# Altium footprint library Memory.PcbLib: 3 footprints
Each footprint in its own frame and in the unit in brackets; x right, y up, seen from the top. Pads: shape width x height; smd on the part's side, far side on the other; paste and mask are expansions set on the pad; w line width, h text height; cw(c..) or ccw(c..) is an arc to the next point about the centre after c.
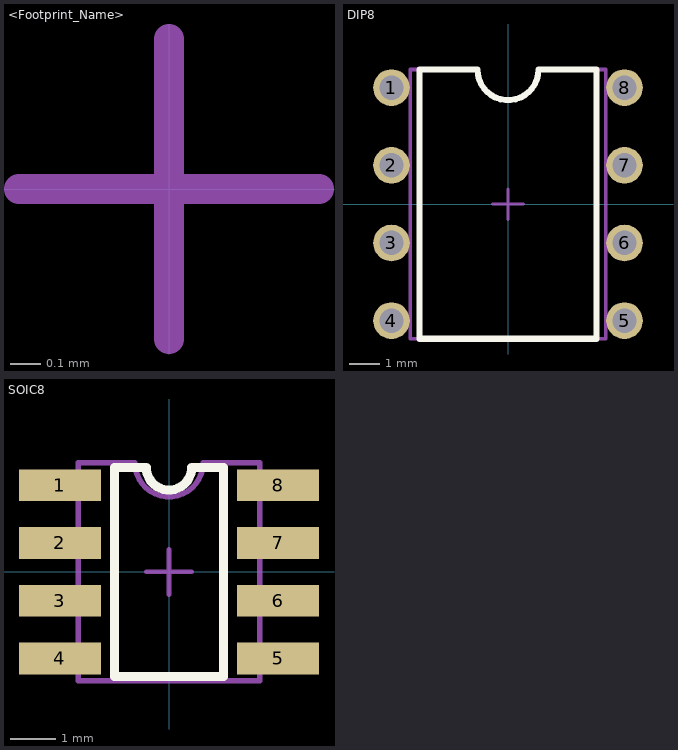
[diagram p0: the footprints below, top view; thin cyan lines are the x and y axes]

## <Footprint_Name> [mm] "<Package_Name>, <Number_of_pins>, <Pitch_in_mm>"
height 2.5
ReperDotTop:
  lines w0.1: -0.5,0 0.5,0 ; 0,-0.5 0,0.5
AssemblyOutlineTop:
  text "'.Designator'" at 0,0 h2.5

## DIP8 [mm] "DIP8, 8 pins, Pitch 2.54mm"
height 2.5
pads (8):
  round 1.2 hole 0.8 unplated mask+0.1: 1(-3.81,3.81) 2(-3.81,1.27) 3(-3.81,-1.27) 4(-3.81,-3.81) 5(3.81,-3.81) 6(3.81,-1.27) 7(3.81,1.27) 8(3.81,3.81)
Top Overlay:
  lines w0.2: -2.9,-4.4 -2.9,4.4 -1,4.4 ccw(c0,4.4) 1,4.4 2.9,4.4 2.9,-4.4 -2.9,-4.4
ReperDotTop:
  lines w0.1: -0.5,0 0.5,0 ; 0,-0.5 0,0.5
AssemblyOutlineTop:
  lines w0.12: -3.2,-4.4 3.2,-4.4 3.2,4.4 1,4.4 cw(c0,4.4) -1,4.4 -3.2,4.4 -3.2,-4.4
  text "'.Designator'" at 0,0 h2.5
3D body "User Library-DIP-8P-M01.step": height 4.36, standoff -3, extent -4,-4.7 3.87,4.7

## SOIC8 [mm] "SOIC8, 8 pins, Pitch 1.27mm"
height 2.5
pads (8):
  rect 1.8x0.7 smd: 1(-2.4,1.905) 2(-2.4,0.635) 3(-2.4,-0.635) 4(-2.4,-1.905) 5(2.4,-1.905) 6(2.4,-0.635) 7(2.4,0.635) 8(2.4,1.905)
Top Overlay:
  lines w0.2: -1.2,-2.3 1.2,-2.3 1.2,2.3 0.5,2.3 cw(c0,2.3) -0.5,2.3 -1.2,2.3 -1.2,-2.3
ReperDotTop:
  lines w0.1: -0.5,0 0.5,0 ; 0,-0.5 0,0.5
AssemblyOutlineTop:
  lines w0.12: -2,-2.4 2,-2.4 2,2.4 0.75,2.4 cw(c0,2.4) -0.75,2.4 -2,2.4 -2,-2.4
  text "'.Designator'" at 0,0 h2.5
3D body "User Library-SOIC-8-1.step": height 1.75, standoff 0, extent -3,-2.45 3,2.45